# Altium footprint library MUSBC511.PcbLib: 1 footprints
Each footprint in its own frame and in the unit in brackets; x right, y up, seen from the top. Pads: shape width x height; smd on the part's side, far side on the other; paste and mask are expansions set on the pad; w line width, h text height; cw(c..) or ccw(c..) is an arc to the next point about the centre after c.
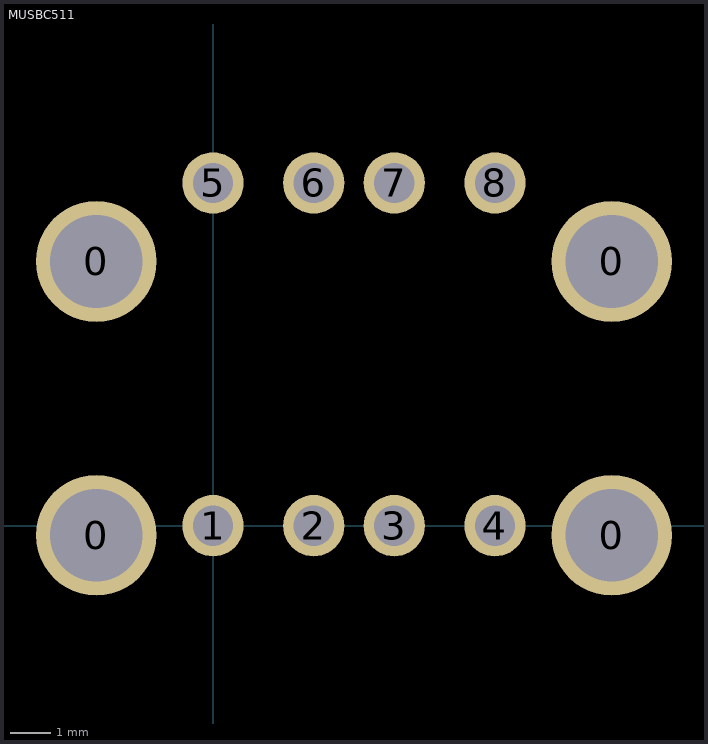
[diagram p0: the footprint, top view; thin cyan lines are the x and y axes]

## MUSBC511 [mm] "Panel mount vertical 2xUSB-A receptacle"
pads (12):
  round 3 hole 2.3: 0(-2.9,-0.24) 0(-2.9,6.56) 0(9.9,-0.24) 0(9.9,6.56)
  round 1.524 hole 1: 1(0,0) 2(2.5,0) 3(4.5,0) 4(7,0) 5(0,8.509) 6(2.5,8.509) 7(4.5,8.509) 8(7,8.509)